# Altium schematic symbol library Schematic_PMIC.SchLib: 11 symbols
Pins are listed as number, name and electrical type; pins without a type are passive.

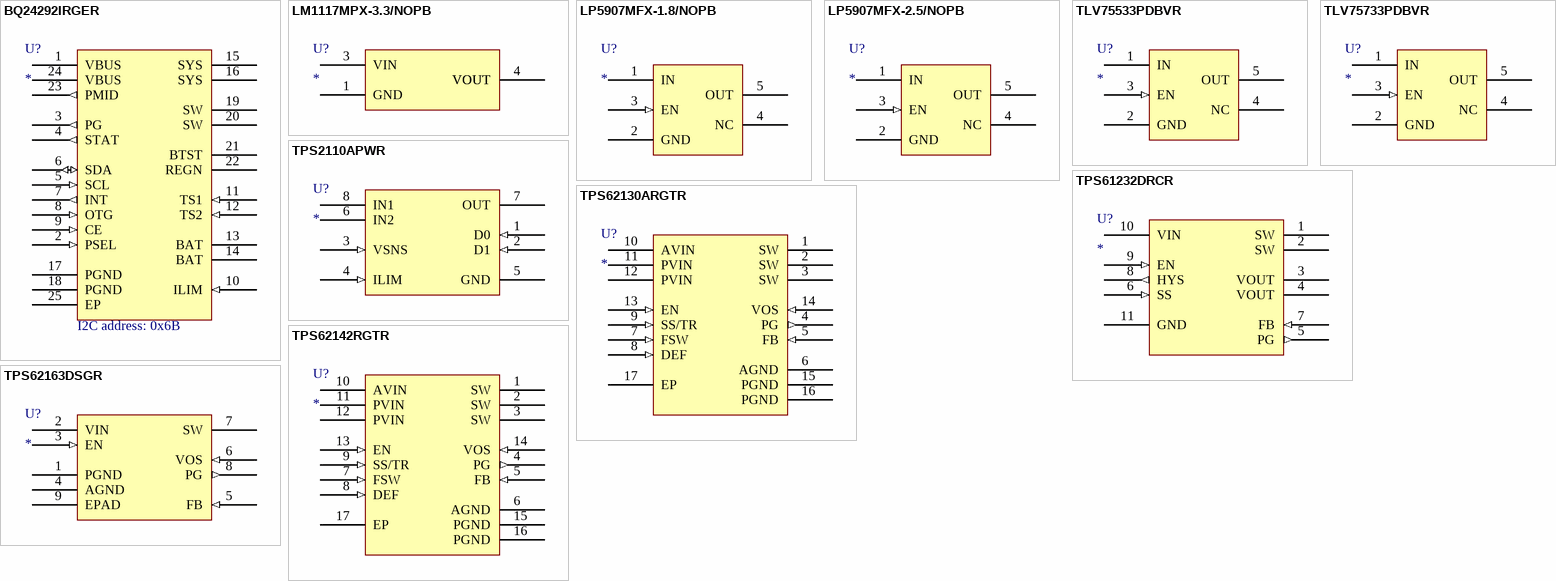
[diagram p0: symbols BQ24292IRGER to TPS62163DSGR]

## BQ24292IRGER
designator U?
IC LI+ CHARGER PWR MGMT 24VQFN; Manufacturer: Texas Instruments; Manufacturer Part Number: BQ24292IRGER; Interface: I2C; Min Supply Voltage: 3.9V; Max Supply Voltage: 17V; Output Current: 4.5A; Output Voltage: 4.4V; Switching Frequency: 1.5MHz; Number of Cells: 1; Operating Supply Current: 3A; Fault Protection: Over Current,Over Voltage,Over Temperature; Supplier 1: Digi-Key; RoHS: Yes; Category: Battery Management; Stock 1: 2820; Pricing 1: 1=5.71000, 10=5.13100, 25=4.85120, 100=3.98860, 250=3.57896, 500=3.44960, 1000=2.86748 (USD); Mount: Surface Mount; Case/Package: VQFN; Number of Pins: 24; Contact Plating: Gold; Min Operating Temperature: -40°C; Max Operating Temperature: 85°C; Package Quantity: 3000; Packaging: Tape and Reel; Max Charge Current: 4.5A; Battery Pack Voltage: 4.4V; Lead Free: Lead Free; ComponentLink1URL: https://datasheet.ciiva.com/18617/bq24292i-18617578.pdf?src-supplier=Digi-Key; ComponentLink1Description: https://datasheet.ciiva.com/18617/bq24292i-18617578.pdf?src-supplier=Digi-Key
footprint QFN50P400X400X100_HS-25N (QFN, 24-Leads, Body 4.00x4.00mm, Pitch 0.50mm, Thermal Pad 2.70x2.70mm, IPC Medium Density)
pins: 1 VBUS (power), 2 PSEL (in), 3 PG (out), 4 STAT (out), 5 SCL (in), 6 SDA (io), 7 INT (out), 8 OTG (in), 9 CE (in), 10 ILIM (in), 11 TS1 (in), 12 TS2 (in), 13 BAT (power), 14 BAT (power), 15 SYS (power), 16 SYS (power), 17 PGND (power), 18 PGND (power), 19 SW (power), 20 SW (power), 21 BTST (power), 22 REGN (power), 23 PMID (out), 24 VBUS (power), 25 EP
text: I2C address: 0x6B

## LM1117MPX-3.3/NOPB
designator U?
TEXAS INSTRUMENTS         LM1117IMP-3.3/NOPB             Fixed LDO Voltage Regulator, 15V in, 1.2V Dropout, 3.3V/800mA out, SOT-223-3; Output Voltage: 3.3V; Number of Outputs: 1; Output Current: 800mA; Polarity: Positive; Quiescent Current: 15mA; Accuracy: 1%; Min Input Voltage: 2.6V; Current Rating: 800A; Max Supply Voltage: 10V; Min Supply Voltage: 4.75V; Supplier 1: Digi-Key; Manufacturer: Texas Instruments; Manufacturer Part Number: LM1117IMP-3.3/NOPB; Stock 1: 18193; Pricing 1: 1=1.10000, 10=0.98500, 100=0.71810, 500=0.60120 (USD); RoHS: Yes; Mount: Surface Mount; Case/Package: SOT-223; Number of Pins: 4; Min Operating Temperature: -40°C; Max Operating Temperature: 125°C; Packaging: Tape and Reel; Dropout Voltage: 1.2V; Max Input Voltage: 15V; Max Output Current: 800mA; Output Voltage Accuracy: 1%; Output Type: Fixed; Nominal Output Voltage: 3.3V; Package Quantity: 1000; Number of Regulators: 1; Min Current Limit: 800mA; Termination: SMD/SMT; Length: 6.5mm; Height: 1.6mm; Width: 3.56mm; Radiation Hardening: No; REACH SVHC: No SVHC; Lead Free: Lead Free; ComponentLink1URL: https://datasheet.ciiva.com/27051/1281318-27051810.pdf?src-supplier=Jameco; ComponentLink1Description: https://datasheet.ciiva.com/27051/1281318-27051810.pdf?src-supplier=Jameco; ComponentLink2URL: https://datasheet.ciiva.com/8042/1670636-8042261.pdf?src-supplier=Element14; ComponentLink2Description: https://datasheet.ciiva.com/8042/1670636-8042261.pdf?src-supplier=Element14; ComponentLink3URL: https://datasheet.ciiva.com/6580/lm1117-n-6580026.pdf?src-supplier=Digi-Key; ComponentLink3Description: https://datasheet.ciiva.com/6580/lm1117-n-6580026.pdf?src-supplier=Digi-Key; ComponentLink4URL: https://datasheet.ciiva.com/46386/1882372-46386042.pdf?src-supplier=Element14; ComponentLink4Description: https://datasheet.ciiva.com/46386/1882372-46386042.pdf?src-supplier=Element14; ComponentLink5URL: https://datasheet.ciiva.com/1570/1849796-1570171.pdf?src-supplier=Farnell; ComponentLink5Description: https://datasheet.ciiva.com/1570/1849796-1570171.pdf?src-supplier=Farnell; ComponentLink6URL: https://datasheet.ciiva.com/3223/lm1117-n-3223515.pdf?src-supplier=Avnet; ComponentLink6Description: https://datasheet.ciiva.com/3223/lm1117-n-3223515.pdf?src-supplier=Avnet; ComponentLink7URL: https://datasheet.ciiva.com/14149/lm1117-eng-tds-14149980.pdf?src-supplier=Distrelec; ComponentLink7Description: https://datasheet.ciiva.com/14149/lm1117-eng-tds-14149980.pdf?src-supplier=Distrelec; ComponentLink8URL: https://datasheet.ciiva.com/6580/lm1117-n-6580030.pdf?src-supplier=Digi-Key; ComponentLink8Description: https://datasheet.ciiva.com/6580/lm1117-n-6580030.pdf?src-supplier=Digi-Key
footprint SOT230P700X180-4N (SOT223, 4-Leads, Body 6.50x7.00mm (avg), Pitch 2.30mm, IPC Medium Density)
pins: 1 GND (power), 2 VOUT (power), 3 VIN (power), 4 VOUT (power)

## LP5907MFX-1.8/NOPB
designator U?
IC REG LINEAR 1.8V 250MA SOT23-5; Manufacturer: Texas Instruments; Manufacturer Part Number: LP5907MFX-1.8/NOPB; Output Voltage Accuracy: 2%; Power Supply Rejection Ratio (PSRR): 82dB; Output Type: Fixed; Min Input Voltage: 2.2V; Number of Outputs: 1; Polarity: Positive; Quiescent Current: 25uA; Dropout Voltage: 250mV; Max Input Voltage: 5.5V; Supplier 1: Digi-Key; RoHS: Yes; Category: Voltage Regulators - Linear; Stock 1: 191037; Pricing 1: 1=0.54000, 10=0.46100, 25=0.43040, 100=0.31980, 250=0.27060, 500=0.25830, 1000=0.19065 (USD); Mount: Surface Mount; Case/Package: SOT-23; Number of Pins: 5; Contact Plating: Tin; Min Operating Temperature: -40°C; Max Operating Temperature: 125°C; Accuracy: 2%; Max Output Current: 250mA; Packaging: Tape and Reel; Package Quantity: 3000; Output Voltage: 1.8V; Number of Regulators: 1; Nominal Output Voltage: 1.8V; Output Current: 250mA; Lead Free: Lead Free; REACH SVHC: No SVHC; ComponentLink1URL: https://datasheet.ciiva.com/15083/lp5907-15083594.pdf?src-supplier=Digi-Key; ComponentLink1Description: https://datasheet.ciiva.com/15083/lp5907-15083594.pdf?src-supplier=Digi-Key
footprint SOT95P280X145-5N (SOT23, 5-Leads, Body 2.90x2.80mm, Pitch 0.95mm, IPC Medium Density)
pins: 1 IN (power), 2 GND (power), 3 EN (in), 4 NC, 5 OUT (power)

## LP5907MFX-2.5/NOPB
designator U?
IC REG LINEAR 2.5V 250MA SOT23-5; Manufacturer: Texas Instruments; Manufacturer Part Number: LP5907MFX-2.5/NOPB; Accuracy: 2%; Output Type: Fixed; Dropout Voltage: 50mV; Number of Outputs: 1; Min Input Voltage: 2.2V; Max Input Voltage: 5.5V; Polarity: Positive; Quiescent Current: 25uA; Supplier 1: Digi-Key; RoHS: Yes; Category: Voltage Regulators - Linear; Stock 1: 29463; Pricing 1: 1=0.54000, 10=0.46100, 25=0.43040, 100=0.31980, 250=0.27060, 500=0.25830, 1000=0.19065 (USD); Mount: Surface Mount; Case/Package: SOT-23; Number of Pins: 5; Min Operating Temperature: -40°C; Max Operating Temperature: 125°C; Max Output Current: 250mA; Output Current: 250mA; Output Voltage: 2.5V; Number of Regulators: 1; Packaging: Tape and Reel; Radiation Hardening: No; Lead Free: Lead Free; ComponentLink1URL: https://datasheet.ciiva.com/48505/lp5907-48505033.pdf?src-supplier=Avnet; ComponentLink1Description: https://datasheet.ciiva.com/48505/lp5907-48505033.pdf?src-supplier=Avnet
footprint SOT95P280X145-5N (SOT23, 5-Leads, Body 2.90x2.80mm, Pitch 0.95mm, IPC Medium Density)
pins: 1 IN (power), 2 GND (power), 3 EN (in), 4 NC, 5 OUT (power)

## TLV75533PDBVR
designator U?
IC REG LINEAR 3.3V 500MA SOT23-5; Manufacturer: Texas Instruments; Manufacturer Part Number: TLV75533PDBVR; Supplier 1: Digi-Key; Stock 1: 25120; Pricing 1: 1=0.63000, 10=0.55100, 100=0.39250, 500=0.31730, 1000=0.24215 (USD); RoHS: No; Min Operating Temperature: -40°C; Max Operating Temperature: 125°C; ComponentLink1URL: http://www.ti.com/lit/ds/symlink/tlv755p.pdf?src-supplier=Digi-Key; ComponentLink1Description: http://www.ti.com/lit/ds/symlink/tlv755p.pdf?src-supplier=Digi-Key
footprint SOT95P280X145-5N (SOT23, 5-Leads, Body 2.90x2.80mm, Pitch 0.95mm, IPC Medium Density)
pins: 1 IN (power), 2 GND (power), 3 EN (in), 4 NC, 5 OUT (power)

## TLV75733PDBVR
designator U?
1-A, low-IQ, high-accuracy, low-dropout voltage regulator with enable 5-SOT-23 -40 to 125; Manufacturer: Texas Instruments; Manufacturer Part Number: TLV75733PDBVR; Output Type: Fixed; Tolerance: 20%; Voltage Rating: 50V; Output Configuration: Positive; Number of Regulators: 1; Max Supply Voltage: 5.5V; Min Output Voltage: 3.3V; Output Current: 1A; Max Supply Current: 40uA; Power Supply Rejection Ratio (PSRR): 52dB; Supplier 1: Digikey; RoHS: Yes; Category: Voltage Regulators - Linear; Stock 1: 6820; Pricing 1: 1=0.29, 10=0.196, 25=0.1736, 100=0.1492, 250=0.13752, 500=0.13046, 1000=0.12464 (USD); Mounting Technology: Surface Mount; Case/Package: 1206; Min Operating Temperature: -40°C; Max Operating Temperature: 125°C; Packaging: Tape and Reel; Series: C; Ratings: AEC-Q200; RoHS Compliant: Yes; ComponentLink1URL: http://www.ti.com/lit/ds/symlink/tlv757p.pdf?src-supplier=Digikey; ComponentLink1Description: http://www.ti.com/lit/ds/symlink/tlv757p.pdf?src-supplier=Digikey
footprint SOT95P280X145-5N (SOT23, 5-Leads, Body 2.90x2.80mm, Pitch 0.95mm, IPC Medium Density)
pins: 1 IN (power), 2 GND (power), 3 EN (in), 4 NC, 5 OUT (power)

## TPS2110APWR
designator U?
IC OR CTRLR SRC SELECT 8TSSOP; Manufacturer: Texas Instruments; Manufacturer Part Number: TPS2110APWR; Max Input Voltage: 5.5V; Min Input Voltage: 2.8V; Turn-On Delay Time: 500us; Current - Output 2: 750mA; Number of Inputs: 2; Number of Outputs: 1; On-State Resistance: 120mR; Output Voltage: 6V; Supplier 1: Digi-Key; RoHS: Yes; Category: Voltage Regulators - Switching; Stock 1: 4089; Pricing 1: 1=2.34000, 10=2.09900, 25=1.98000, 100=1.58400, 250=1.38600, 500=1.34640, 1000=1.06920 (USD); Case/Package: TSSOP; Number of Pins: 8; Weight: 0.001376oz; Min Operating Temperature: -40°C; Max Operating Temperature: 85°C; Operating Supply Voltage: 5.5V; Output Current: 750mA; Packaging: Tape and Reel; Package Quantity: 1; Max Output Current: 750mA; Radiation Hardening: No; Lead Free: Lead Free; REACH SVHC: No SVHC; ComponentLink1URL: https://datasheet.ciiva.com/15109/getdatasheetpartid-508751-15109281.pdf?src-supplier=Verical; ComponentLink1Description: https://datasheet.ciiva.com/15109/getdatasheetpartid-508751-15109281.pdf?src-supplier=Verical; ComponentLink2URL: https://datasheet.ciiva.com/3232/tps2110a-3232502.pdf?src-supplier=Avnet; ComponentLink2Description: https://datasheet.ciiva.com/3232/tps2110a-3232502.pdf?src-supplier=Avnet; ComponentLink3URL: https://datasheet.ciiva.com/1960/tps2110a-1960807.pdf?src-supplier=Digi-Key; ComponentLink3Description: https://datasheet.ciiva.com/1960/tps2110a-1960807.pdf?src-supplier=Digi-Key; ComponentLink4URL: https://datasheet.ciiva.com/1960/tps2110a-1960808.pdf?src-supplier=Digi-Key; ComponentLink4Description: https://datasheet.ciiva.com/1960/tps2110a-1960808.pdf?src-supplier=Digi-Key; ComponentLink5URL: https://datasheet.ciiva.com/1960/tps2110a-1960809.pdf?src-supplier=Digi-Key; ComponentLink5Description: https://datasheet.ciiva.com/1960/tps2110a-1960809.pdf?src-supplier=Digi-Key
footprint TSOP65P640X120-8N (TSOP, 8-Leads, Body 3.00x4.40mm, Pitch 0.65mm, IPC Medium Density)
pins: 1 D0 (in), 2 D1 (in), 3 VSNS (in), 4 ILIM (in), 5 GND (power), 6 IN2 (power), 7 OUT (power), 8 IN1 (power)

## TPS61232DRCR
designator U?
IC REG BOOST 5V 4A 10VSON; Manufacturer: Texas Instruments; Manufacturer Part Number: TPS61232DRCR; Output Type: Fixed; Number of Outputs: 1; Switching Frequency: 2MHz; Min Input Voltage: 2.3V; Efficiency: 96%; Max Output Current: 2.1A; Max Input Voltage: 5.5V; Quiescent Current: 35uA; Supplier 1: Digi-Key; RoHS: Yes; Category: Power Supply Modules; Stock 1: 1050; Pricing 1: 1=2.47000, 10=2.21500, 25=2.09000, 100=1.67200, 250=1.46300, 500=1.42120, 1000=1.12860 (USD); Mount: Surface Mount; Number of Pins: 10; Contact Plating: Gold; Min Operating Temperature: -40°C; Max Operating Temperature: 85°C; Output Voltage: 5V; Topology: Boost; Operating Supply Voltage: 5.5V; Lead Free: Lead Free; ComponentLink1URL: http://www.ti.com/lit/ds/symlink/tps61232.pdf?src-supplier=Digi-Key; ComponentLink1Description: http://www.ti.com/lit/ds/symlink/tps61232.pdf?src-supplier=Digi-Key; ComponentLink2URL: http://www.ti.com/general/docs/suppproductinfo.tsp?distId=10&amp;gotoUrl=http%3A%2F%2Fwww.ti.com%2Flit%2Fgpn%2Ftps61232&src-supplier=Digi-Key; ComponentLink2Description: http://www.ti.com/general/docs/suppproductinfo.tsp?distId=10&amp;gotoUrl=http%3A%2F%2Fwww.ti.com%2Flit%2Fgpn%2Ftps61232&src-supplier=Digi-Key
footprint SON50P300X100_HS-11N (SON, 10-Leads, Body 3.00x3.00mm, Pitch 0.50mm, Thermal Pad 2.15x1.49mm, IPC Medium Density)
pins: 1 SW (power), 2 SW (power), 3 VOUT (power), 4 VOUT (power), 5 PG (out), 6 SS (in), 7 FB (in), 8 HYS (out), 9 EN (in), 10 VIN (power), 11 GND (power)

## TPS62130ARGTR
designator U?
Conv DC-DC Single Step Down 3V to 17V 16-Pin QFN T/R; Manufacturer: Texas Instruments; Manufacturer Part Number: TPS62130ARGTR; Output Voltage: 6V; Output Current: 3A; Quiescent Current: 17uA; Output Type: Adjustable; Output Configuration: Positive; Number of Outputs: 1; Switching Frequency: 2.5MHz; Synchronous Rectifier: Yes; Min Output Voltage: 900mV; Supplier 1: Digi-Key; RoHS: Yes; Category: Power Supply Modules; Stock 1: 19781; Pricing 1: 1=2.08000, 10=1.86600, 25=1.76000, 100=1.40800, 250=1.23200, 500=1.19680, 1000=0.95040 (USD); Mount: Surface Mount; Case/Package: QFN; Number of Pins: 16; Contact Plating: Gold; Min Operating Temperature: -40°C; Max Operating Temperature: 125°C; Operating Supply Voltage: 17V; Package Quantity: 3000; Packaging: Tape and Reel; Max Input Voltage: 17V; Min Input Voltage: 3V; Min Supply Voltage: 3V; Max Output Current: 3A; Max Output Voltage: 6V; Radiation Hardening: No; Lead Free: Lead Free; REACH SVHC: No SVHC; ComponentLink1URL: https://datasheet.ciiva.com/14377/tps62130-14377120.pdf?src-supplier=Digi-Key; ComponentLink1Description: https://datasheet.ciiva.com/14377/tps62130-14377120.pdf?src-supplier=Digi-Key; ComponentLink2URL: https://datasheet.ciiva.com/46638/tps62130a-46638750.pdf?src-supplier=Digi-Key; ComponentLink2Description: https://datasheet.ciiva.com/46638/tps62130a-46638750.pdf?src-supplier=Digi-Key; ComponentLink3URL: https://datasheet.ciiva.com/30031/tps62130-30031567.pdf?src-supplier=Avnet; ComponentLink3Description: https://datasheet.ciiva.com/30031/tps62130-30031567.pdf?src-supplier=Avnet
footprint QFN50P300X300X100_HS-17N (QFN, 16-Leads, Body 3.00x3.00mm, Pitch 0.50mm, Thermal Pad 1.68x1.68mm, IPC Medium Density)
pins: 1 SW (power), 2 SW (power), 3 SW (power), 4 PG (out), 5 FB (in), 6 AGND (power), 7 FSW (in), 8 DEF (in), 9 SS/TR (in), 10 AVIN (power), 11 PVIN (power), 12 PVIN (power), 13 EN (in), 14 VOS (in), 15 PGND (power), 16 PGND (power), 17 EP

## TPS62142RGTR
designator U?
IC REG BUCK 3.3V 2A 16VQFN Buck Switching Regulator IC Positive Fixed 3.3V 1 Output 2A 16-VFQFN Exposed Pad; Manufacturer: Texas Instruments; Manufacturer Part Number: TPS62142RGTR; Manufacturer Lifecycle Status: ACTIVE; Max Duty Cycle: 100%; Max Supply Voltage: 17V; Max Junction Temperature (Tj): 125°C; Min Input Voltage: 3V; Nominal Supply Current: 17µA; Number of Outputs: 1; Switching Frequency: 2.5MHz; Synchronous Rectifier: Yes; Supplier 1: DigiKey; RoHS: Compliant; Category: Voltage Regulators - Switching; Stock 1: 3463; Pricing 1: 1=1.81, 10=1.329, 25=1.2092, 100=1.0773, 250=1.01444, 500=0.97652, 1000=0.94532 (USD); Case/Package: VQFN; Contact Plating: Gold; Height: 1mm; Lead Free: Lead Free; Length: 3mm; Lifecycle Status: Production; Max Operating Temperature: 125°C; Max Output current: 2A; Max Output Voltage: 3.3V; Min Operating Temperature: -40°C; Min Output Voltage: 3.3V; Min Supply Voltage: 3V; Pins: 16; Operating Supply Voltage: 17V; Output Configuration: Positive; Output Current: 2A; Output Type: Fixed; Output Voltage: 3.3V; Quiescent Current: 17µA; Schedule B: 8542390000, 8542390000|8542390000|8542390000|8542390000|8542390000; Thickness: 900µm; Topology: Buck; Width: 3mm; ComponentLink1URL: https://sigma.octopart.com:443/68310154/technical_drawing/Texas-Instruments-TPS62142RGTR.pdf?src-supplier=Texas+Instruments; ComponentLink1Description: https://sigma.octopart.com:443/68310154/technical_drawing/Texas-Instruments-TPS62142RGTR.pdf?src-supplier=Texas+Instruments; ComponentLink2URL: https://octopart.com:443/opatz8j6/c1?t=kAQG-GulTVJnDKJtOeBdouFBlgw94JmOEAf7lKg_PIE6OgJIaJyaulW7ltd4MFUEIeFEMJIYX4WyAGAoaX_kaKyKGqmD59r7cUVgDt6u66jutEurTU8K9zo-pzyNmBD7lnkdvf1m2O5fc_0JolnUNjsbYsteLVzzl556ldsFHx8PL_easkCJQKkDcJXjcgXjW9VAL_RXHL2ZLQYKKG-k3hy_TI23068B8Yh3Ugka9J_K8V87kATeGR9Pco3GAWldBz13514ChRp6PHLDLc1IGCqhjFEconWmCBILBTwdTszIGGs1tlJe1cKBgVEuDgxPBi8RELlTJ-6hUSW9i6rk7adRNHX6Ju2raHugijdMvz0-FRFC7fUBwetTTyYwTsnQOIPIaqRy&src-supplier=Texas+Instruments; ComponentLink2Description: https://octopart.com:443/opatz8j6/c1?t=kAQG-GulTVJnDKJtOeBdouFBlgw94JmOEAf7lKg_PIE6OgJIaJyaulW7ltd4MFUEIeFEMJIYX4WyAGAoaX_kaKyKGqmD59r7cUVgDt6u66jutEurTU8K9zo-pzyNmBD7lnkdvf1m2O5fc_0JolnUNjsbYsteLVzzl556ldsFHx8PL_easkCJQKkDcJXjcgXjW9VAL_RXHL2ZLQYKKG-k3hy_TI23068B8Yh3Ugka9J_K8V87kATeGR9Pco3GAWldBz13514ChRp6PHLDLc1IGCqhjFEconWmCBILBTwdTszIGGs1tlJe1cKBgVEuDgxPBi8RELlTJ-6hUSW9i6rk7adRNHX6Ju2raHugijdMvz0-FRFC7fUBwetTTyYwTsnQOIPIaqRy&src-supplier=Texas+Instruments; ComponentLink3URL: https://datasheet.octopart.com:443/TPS62142RGTR-Texas-Instruments-datasheet-37742234.pdf?src-supplier=Texas+Instruments; ComponentLink3Description: https://datasheet.octopart.com:443/TPS62142RGTR-Texas-Instruments-datasheet-37742234.pdf?src-supplier=Texas+Instruments; ComponentLink4URL: https://datasheet.octopart.com:443/TPS62142RGTR-Texas-Instruments-datasheet-16054402.pdf?src-supplier=Texas+Instruments; ComponentLink4Description: https://datasheet.octopart.com:443/TPS62142RGTR-Texas-Instruments-datasheet-16054402.pdf?src-supplier=Texas+Instruments; ComponentLink5URL: https://datasheet.octopart.com:443/TPS62142RGTR-Texas-Instruments-datasheet-12495262.pdf?src-supplier=Texas+Instruments; ComponentLink5Description: https://datasheet.octopart.com:443/TPS62142RGTR-Texas-Instruments-datasheet-12495262.pdf?src-supplier=Texas+Instruments; ComponentLink6URL: https://datasheet.octopart.com:443/TPS62142RGTR-Texas-Instruments-datasheet-10669927.pdf?src-supplier=Texas+Instruments; ComponentLink6Description: https://datasheet.octopart.com:443/TPS62142RGTR-Texas-Instruments-datasheet-10669927.pdf?src-supplier=Texas+Instruments; ComponentLink7URL: https://datasheet.octopart.com:443/TPS62142RGTR-Texas-Instruments-datasheet-10623982.pdf?src-supplier=Texas+Instruments; ComponentLink7Description: https://datasheet.octopart.com:443/TPS62142RGTR-Texas-Instruments-datasheet-10623982.pdf?src-supplier=Texas+Instruments; ComponentLink8URL: https://sigma.octopart.com:443/49250272/technical_drawing/Texas-Instruments-TPS62142RGTR.pdf?src-supplier=Texas+Instruments; ComponentLink8Description: https://sigma.octopart.com:443/49250272/technical_drawing/Texas-Instruments-TPS62142RGTR.pdf?src-supplier=Texas+Instruments; ComponentLink9URL: https://datasheet.octopart.com:443/TPS62142RGTR-Texas-Instruments-datasheet-94062304.pdf?src-supplier=element14+APAC; ComponentLink9Description: https://datasheet.octopart.com:443/TPS62142RGTR-Texas-Instruments-datasheet-94062304.pdf?src-supplier=element14+APAC; ComponentLink10URL: https://datasheet.octopart.com:443/TPS62142RGTR-Texas-Instruments-datasheet-140571930.pdf?src-supplier=Arrow.cn; ComponentLink10Description: https://datasheet.octopart.com:443/TPS62142RGTR-Texas-Instruments-datasheet-140571930.pdf?src-supplier=Arrow.cn; ComponentLink11URL: http://sigma.octopart.com:80/reach_statement/Texas-Instruments-company-64.pdf?src-supplier=Compliance+Statements; ComponentLink11Description: http://sigma.octopart.com:80/reach_statement/Texas-Instruments-company-64.pdf?src-supplier=Compliance+Statements; ComponentLink12URL: http://sigma.octopart.com:80/conflict_mineral_statement/Texas-Instruments-company-63.pdf?src-supplier=Compliance+Statements; ComponentLink12Description: http://sigma.octopart.com:80/conflict_mineral_statement/Texas-Instruments-company-63.pdf?src-supplier=Compliance+Statements
footprint QFN50P300X300X100_HS-17N (QFN, 16-Leads, Body 3.00x3.00mm, Pitch 0.50mm, Thermal Pad 1.68x1.68mm, IPC Medium Density)
pins: 1 SW (power), 2 SW (power), 3 SW (power), 4 PG (out), 5 FB (in), 6 AGND (power), 7 FSW (in), 8 DEF (in), 9 SS/TR (in), 10 AVIN (power), 11 PVIN (power), 12 PVIN (power), 13 EN (in), 14 VOS (in), 15 PGND (power), 16 PGND (power), 17 EP

## TPS62163DSGR
designator U?
3V-17V 1A Step-Down Converters with DCS-Control? 8-WSON -40 to 125; Manufacturer: Texas Instruments; Manufacturer Part Number: TPS62163DSGR; Max Input Voltage: 17V; Min Input Voltage: 3V; Number of Outputs: 1; Output Voltage: 5V; Output Type: Fixed; Quiescent Current: 17uA; Synchronous Rectifier: Yes; Switching Frequency: 2.25MHz; Output Configuration: Positive; Supplier 1: Digi-Key; RoHS: Yes; Category: Power Supply Modules; Stock 1: 10746; Pricing 1: 1=1.58000, 10=1.42300, 25=1.34240, 100=1.07400, 250=0.93976, 500=0.91290, 1000=0.72495 (USD); Case/Package: SOIC; Number of Pins: 8; Contact Plating: Gold; Min Operating Temperature: -40°C; Max Operating Temperature: 125°C; Operating Supply Voltage: 17V; Max Output Current: 1A; Packaging: Tape and Reel; Package Quantity: 1; Min Output Voltage: 5V; Max Output Voltage: 5V; Output Current: 1A; Lead Free: Lead Free; REACH SVHC: No SVHC; ComponentLink1URL: https://datasheet.ciiva.com/4880/slvsam2a-198231-4880752.pdf?src-supplier=Mouser; ComponentLink1Description: https://datasheet.ciiva.com/4880/slvsam2a-198231-4880752.pdf?src-supplier=Mouser; ComponentLink2URL: https://datasheet.ciiva.com/2034/tps62160-2034672.pdf?src-supplier=Digi-Key; ComponentLink2Description: https://datasheet.ciiva.com/2034/tps62160-2034672.pdf?src-supplier=Digi-Key; ComponentLink3URL: https://datasheet.ciiva.com/2034/tps62160-2034673.pdf?src-supplier=Digi-Key; ComponentLink3Description: https://datasheet.ciiva.com/2034/tps62160-2034673.pdf?src-supplier=Digi-Key; ComponentLink4URL: https://datasheet.ciiva.com/2034/tps62160-2034674.pdf?src-supplier=Digi-Key; ComponentLink4Description: https://datasheet.ciiva.com/2034/tps62160-2034674.pdf?src-supplier=Digi-Key
footprint SON50P200X80_HS-9N (SON, 8-Leads, Body 2.00x2.00mm, Pitch 0.50mm, Thermal Pad 1.60x0.69mm, IPC Medium Density)
pins: 1 PGND (power), 2 VIN (power), 3 EN (in), 4 AGND (power), 5 FB (in), 6 VOS (in), 7 SW (power), 8 PG (out), 9 EPAD